# Altium schematic symbol library Jack.SchLib: 1 symbol
Pins are listed as number, name and electrical type; pins without a type are passive.

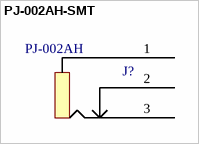
[diagram p0: symbol PJ-002AH-SMT]

## PJ-002AH-SMT
designator J?  Supplier Part Number 1: PJ-002AH  (hidden comment: *)
DC Power Jack; Supplier 1: NAC Semi; HelpURL: http://www.cui.com/product/resource/pj-102a.pdf
pins: 1, 2, 3